# Altium footprint library O_JonF_DaveL.PcbLib: 331 footprints (part 17 of 21)
Each footprint in its own frame and in the unit in brackets; x right, y up, seen from the top. Pads: shape width x height; smd on the part's side, far side on the other; paste and mask are expansions set on the pad; w line width, h text height; cw(c..) or ccw(c..) is an arc to the next point about the centre after c.
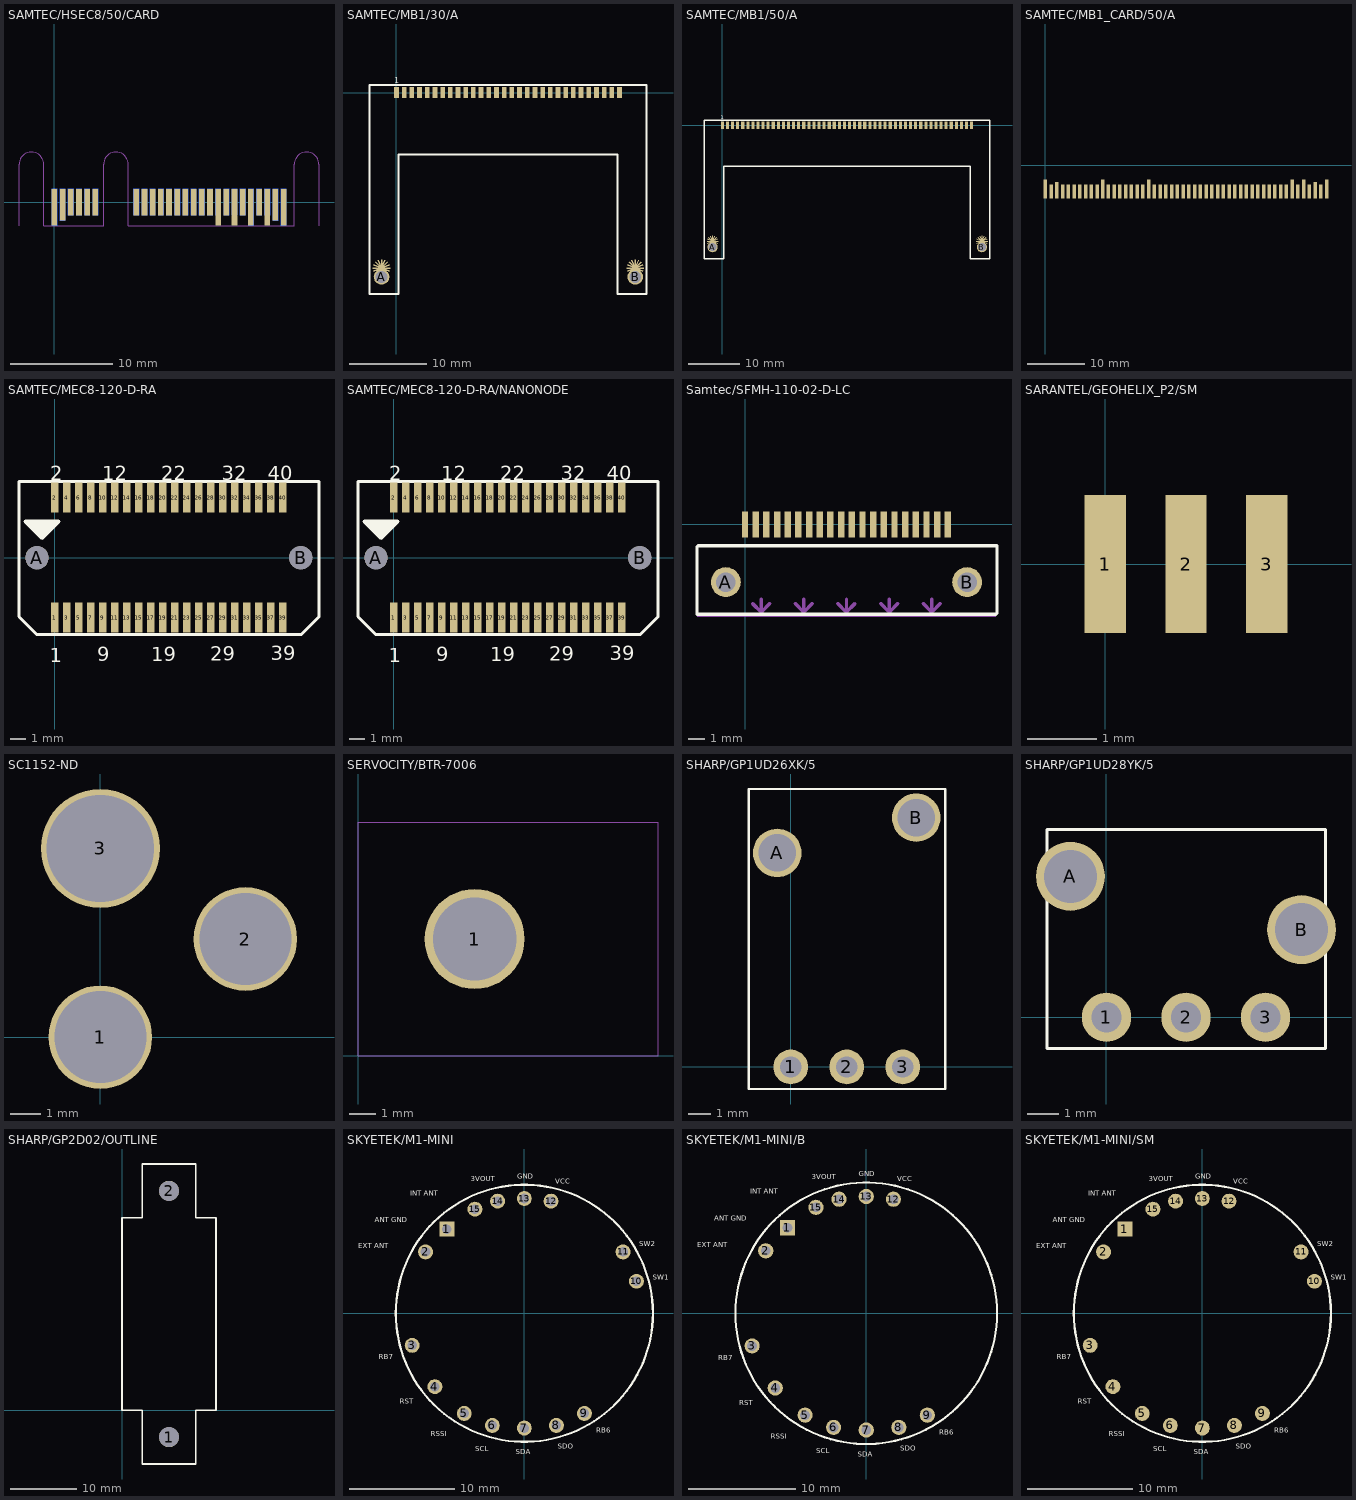
[diagram p16: the footprints below, top view; thin cyan lines are the x and y axes]

## SAMTEC/HSEC8/50/CARD [mil]
height 1
pads (50):
  rect 21.63x141.72 smd mask+7.87: 1(0,-19.69) 33(629.92,-19.69) 37(692.9,-19.69) 41(755.9,-19.69) 45(818.88,-19.69) 49(881.88,-19.69)
  rect 21.63x141.72 smd far side mask+7.87: 2(0,-19.69) 42(755.9,-19.69) 50(881.88,-19.69)
  rect 21.63x122.02 smd mask+7.87: 3(31.48,-9.84) 47(850.38,-9.84)
  rect 21.63x122.02 smd far side mask+7.87: 4(31.48,-9.84) 48(850.38,-9.84)
  rect 21.63x102.33 smd mask+7.9: 5(63,0) 7(94.48,0) 9(126,0) 11(157.47,0) 13(314.95,0) 15(346.45,0) 17(377.95,0) 19(409.43,0) 21(440.93,0) 23(472.43,0) 25(503.93,0) 27(535.42,0) 29(566.92,0) 31(598.42,0) 35(661.42,0) 39(724.4,0) 43(787.4,0)
  rect 21.63x102.33 smd far side mask+7.9: 6(63,0) 8(94.48,0) 10(126,0) 12(157.47,0) 14(314.95,0) 16(346.45,0) 18(377.95,0) 20(409.43,0) 22(440.93,0) 24(472.43,0) 26(503.93,0) 28(535.42,0) 30(566.92,0) 32(598.42,0) 34(629.92,0) 36(661.42,0) 38(692.9,0) 40(724.4,0) 44(787.4,0) 46(818.88,0)
Top Solder:
  region: 284,145 284,-91 923,-91 923,145
  region: -41,-91 -41,145 189,145 189,-91
Bottom Solder:
  region: 284,145 284,-91 923,-91 923,145
  region: -41,145 189,145 189,-91 -41,-91
Mechanical 16:
  lines w1: -136.35,-91.33 -136.35,145 ; -136.28,145 cw(c-88.78,145) -41.28,145 ; -41.35,145 -41.35,-91.33 188.97,-91.34 188.97,145 ; 189.02,145 cw(c236.52,145) 284.02,145 284,-90.93 ; 284,-91.34 923,-91.34 ; 922.97,145 cw(c970.47,145) 1017.97,145 ; 923,-91 923,145 ; 1018,-91.33 1018,145

## SAMTEC/MB1/30/A [mm]
pads (50):
  rect 0.61x1.45 smd: 1(0,0) 2(1,0) 3(2,0) 4(3,0) 5(4,0) 6(5,0) 7(6,0) 8(7,0) 9(8,0) 10(9,0) 11(10,0) 12(11,0) 13(12,0) 14(13,0) 15(14,0) 16(15,0) 17(16,0) 18(17,0) 19(18,0) 20(19,0) 21(20,0) 22(21,0) 23(22,0) 24(23,0) 25(24,0) 26(25,0) 27(26,0) 28(27,0) 29(28,0) 30(29,0)
  round 2.032 hole 1.55: A(-1.94,-23.952) B(31.04,-23.952)
  rect 0.2x2.286 smd: A.1(-1.94,-22.81) A.2(-1.94,-22.81) B.1(31.04,-22.81) B.5(31.04,-22.81)
  rect 0.2x2.286 smd rot 22.5: A.3(-1.94,-22.81) B.6(31.04,-22.81)
  rect 0.2x2.286 smd rot 45: A.4(-1.94,-22.81) B.2(31.04,-22.81)
  rect 0.2x2.286 smd rot 67.5: A.5(-1.94,-22.81) B.7(31.04,-22.81)
  rect 2.286x0.2 smd: A.6(-1.94,-22.81) B.3(31.04,-22.81)
  rect 0.2x2.286 smd rot 112.5: A.7(-1.94,-22.81) B.8(31.04,-22.81)
  rect 0.2x2.286 smd rot 135: A.8(-1.94,-22.81) B.4(31.04,-22.81)
  rect 0.2x2.286 smd rot 157.5: A.9(-1.94,-22.81) B.9(31.04,-22.81)
Top Overlay:
  lines w0.25: -3.53,-26.202 0.28,-26.202 0.28,-8.042 28.725,-8.042 28.725,-26.202 32.525,-26.202 32.525,1 -3.53,1 -3.53,-26.202
  text ".Designator" at -3.989,-6.3 h1.5
  text "1" at -0.3,1.2 h0.75
Top Paste:
  drawing of 12 lines, arcs and shapes, not listed
Mechanical 1:
  text ".Pattern" at -3,-11 h1.5
  text ".Comment" at 0,6 h1.5
  text ".Designator" at 0,9 h1.5
  text "Solder Loc (tm) requires a VERY specific solder" at -3,-13 h1.12
  text "paste stencil. USE THIS SPT LAYER!" at -3,-15 h1.12

## SAMTEC/MB1/50/A [mm]
pads (70):
  rect 0.61x1.45 smd: 1(0,0) 2(1,0) 3(2,0) 4(3,0) 5(4,0) 6(5,0) 7(6,0) 8(7,0) 9(8,0) 10(9,0) 11(10,0) 12(11,0) 13(12,0) 14(13,0) 15(14,0) 16(15,0) 17(16,0) 18(17,0) 19(18,0) 20(19,0) 21(20,0) 22(21,0) 23(22,0) 24(23,0) 25(24,0) 26(25,0) 27(26,0) 28(27,0) 29(28,0) 30(29,0) 31(30,0) 32(31,0) 33(32,0) 34(33,0) 35(34,0) 36(35,0) 37(36,0) 38(37,0) 39(38,0) 40(39,0) 41(40,0) 42(41,0) 43(42,0) 44(43,0) 45(44,0) 46(45,0) 47(46,0) 48(47,0) 49(48,0) 50(49,0)
  round 2.032 hole 1.55: A(-1.94,-23.952) B(51.04,-23.952)
  rect 0.2x2.286 smd: A.1(-1.94,-22.81) A.2(-1.94,-22.81) B.1(51.04,-22.81) B.5(51.04,-22.81)
  rect 0.2x2.286 smd rot 22.5: A.3(-1.94,-22.81) B.6(51.04,-22.81)
  rect 0.2x2.286 smd rot 45: A.4(-1.94,-22.81) B.2(51.04,-22.81)
  rect 0.2x2.286 smd rot 67.5: A.5(-1.94,-22.81) B.7(51.04,-22.81)
  rect 2.286x0.2 smd: A.6(-1.94,-22.81) B.3(51.04,-22.81)
  rect 0.2x2.286 smd rot 112.5: A.7(-1.94,-22.81) B.8(51.04,-22.81)
  rect 0.2x2.286 smd rot 135: A.8(-1.94,-22.81) B.4(51.04,-22.81)
  rect 0.2x2.286 smd rot 157.5: A.9(-1.94,-22.81) B.9(51.04,-22.81)
Top Overlay:
  lines w0.25: -3.53,-26.202 0.28,-26.202 0.28,-8.042 48.72,-8.042 48.72,-26.202 52.53,-26.202 52.53,1 -3.53,1 -3.53,-26.202
  text "1" at -0.3,1.2 h0.75
  text ".Designator" at -3.989,-6.3 h1.5
Top Paste:
  drawing of 12 lines, arcs and shapes, not listed
Mechanical 1:
  text "paste stencil. USE THIS SPT LAYER!" at -3,-15 h1.12
  text "Solder Loc (tm) requires a VERY specific solder" at -3,-13 h1.12
  text ".Designator" at 0,9 h1.5
  text ".Comment" at 0,6 h1.5
  text ".Pattern" at -3,-11 h1.5

## SAMTEC/MB1_CARD/50/A [mm]
pads (50):
  rect 0.61x3.25 smd: 1(49,-4.1) 5(45,-4.1) 7(43,-4.1) 32(18,-4.1) 40(10,-4.1) 50(0,-4.1)
  rect 0.61x2.45 smd: 2(48,-4.5) 4(46,-4.5) 6(44,-4.5) 8(42,-4.5) 9(41,-4.5) 10(40,-4.5) 11(39,-4.5) 12(38,-4.5) 13(37,-4.5) 14(36,-4.5) 15(35,-4.5) 16(34,-4.5) 17(33,-4.5) 18(32,-4.5) 19(31,-4.5) 20(30,-4.5) 21(29,-4.5) 22(28,-4.5) 23(27,-4.5) 24(26,-4.5) 25(25,-4.5) 26(24,-4.5) 27(23,-4.5) 28(22,-4.5) 29(21,-4.5) 30(20,-4.5) 31(19,-4.5) 33(17,-4.5) 34(16,-4.5) 35(15,-4.5) 36(14,-4.5) 37(13,-4.5) 38(12,-4.5) 39(11,-4.5) 41(9,-4.5) 42(8,-4.5) 43(7,-4.5) 44(6,-4.5) 45(5,-4.5) 46(4,-4.5) 47(3,-4.5) 49(1,-4.5)
  rect 0.61x2.85 smd: 3(47,-4.3) 48(2,-4.3)
Top Solder:
  region: 49.5,-2.47 49.501,-2.47 49.501,-5.73 49.5,-5.73 49.5,-5.731 -0.5,-5.731 -0.5,-5.73 -0.501,-5.73 -0.501,-2.47 -0.5,-2.47 -0.5,-2.469 49.5,-2.469
Mechanical 1:
  text "FLUSH THIS EDGE TO EDGE OF CARD" at 8.98,-0.96 h0.95
  text "TOP OF CARD PCB *FACES* TOP OF HOST PCB" at 3.98,1.04 h0.95
  text "1" at 48.641,-2.34 h0.95
  text ".Pattern" at 3.98,3.04 h0.95

## SAMTEC/MEC8-120-D-RA [mm]
pads (42):
  rect 0.5x2 smd: 1(0,-4) 2(0,4) 3(0.8,-4) 4(0.8,4) 5(1.6,-4) 6(1.6,4) 7(2.4,-4) 8(2.4,4) 9(3.2,-4) 10(3.2,4) 11(4,-4) 12(4,4) 13(4.8,-4) 14(4.8,4) 15(5.6,-4) 16(5.6,4) 17(6.4,-4) 18(6.4,4) 19(7.2,-4) 20(7.2,4) 21(8,-4) 22(8,4) 23(8.8,-4) 24(8.8,4) 25(9.6,-4) 26(9.6,4) 27(10.4,-4) 28(10.4,4) 29(11.2,-4) 30(11.2,4) 31(12,-4) 32(12,4) 33(12.8,-4) 34(12.8,4) 35(13.6,-4) 36(13.6,4) 37(14.4,-4) 38(14.4,4) 39(15.2,-4) 40(15.2,4)
  round 1.55 hole 1.55: A(-1.2,0) B(16.4,0)
Top Overlay:
  region: -1.97,2.518 0.25,2.518 0.327,2.487 0.358,2.41 0.327,2.333 -0.783,1.223 -0.806,1.214 -0.86,1.192 -0.937,1.223 -2.047,2.333 -2.056,2.356 -2.078,2.41 -2.047,2.487
  lines w0.2: -2.4,-3.943 -2.4,5.094 17.62,5.07 17.62,-3.953 16.453,-5.119 -1.218,-5.125 -2.4,-3.943
  text "32" at 11.119,5.153 h0.95
  text ".Designator" at 1.152,0.918 h0.95
  text "1" at -0.341,-6.974 h0.95
  text "2" at -0.331,5.173 h0.95
  text "40" at 14.214,5.173 h0.95
  text "39" at 14.396,-6.852 h0.95
  text "9" at 2.809,-6.914 h0.95
  text "19" at 6.439,-6.904 h0.95
  text "29" at 10.349,-6.884 h0.95
  text "12" at 3.139,5.173 h0.95
  text "22" at 7.099,5.153 h0.95
Mechanical 1:
  text ".Pattern" at 18.082,-0.422 h0.95
  text ".Comment" at 18.082,2.46 h0.95
  text ".Designator" at 18.194,3.778 h0.95
  text "CARD INSERTS FROM THIS SIDE" at -11.15,6.79 h1.43

## SAMTEC/MEC8-120-D-RA/NANONODE [mm]
pads (42):
  rect 0.5x2 smd: 1(0,-4) 2(0,4) 3(0.8,-4) 4(0.8,4) 5(1.6,-4) 6(1.6,4) 7(2.4,-4) 8(2.4,4) 9(3.2,-4) 10(3.2,4) 11(4,-4) 12(4,4) 13(4.8,-4) 14(4.8,4) 15(5.6,-4) 16(5.6,4) 17(6.4,-4) 18(6.4,4) 19(7.2,-4) 20(7.2,4) 21(8,-4) 22(8,4) 23(8.8,-4) 24(8.8,4) 25(9.6,-4) 26(9.6,4) 27(10.4,-4) 28(10.4,4) 29(11.2,-4) 30(11.2,4) 31(12,-4) 32(12,4) 33(12.8,-4) 34(12.8,4) 35(13.6,-4) 36(13.6,4) 37(14.4,-4) 38(14.4,4) 39(15.2,-4) 40(15.2,4)
  round 1.55 hole 1.55: A(-1.2,0) B(16.4,0)
Top Overlay:
  region: -1.97,2.518 0.25,2.518 0.327,2.487 0.358,2.41 0.327,2.333 -0.783,1.223 -0.806,1.214 -0.86,1.192 -0.937,1.223 -2.047,2.333 -2.056,2.356 -2.078,2.41 -2.047,2.487
  lines w0.2: -2.4,-3.943 -2.4,5.094 17.62,5.07 17.62,-3.953 16.453,-5.119 -1.218,-5.125 -2.4,-3.943
  text ".Designator" at 1.152,0.918 h0.95
  text "1" at -0.341,-6.974 h0.95
  text "2" at -0.331,5.173 h0.95
  text "40" at 14.214,5.173 h0.95
  text "39" at 14.396,-6.852 h0.95
  text "9" at 2.809,-6.914 h0.95
  text "19" at 6.439,-6.904 h0.95
  text "29" at 10.349,-6.884 h0.95
  text "12" at 3.139,5.173 h0.95
  text "22" at 7.099,5.153 h0.95
  text "32" at 11.119,5.153 h0.95
Mechanical 1:
  text ".Pattern" at 18.082,-0.422 h0.95
  text ".Comment" at 18.082,2.46 h0.95
  text ".Designator" at 18.194,3.778 h0.95
  text "CARD INSERTS FROM THIS SIDE" at -11.15,6.79 h1.43

## Samtec/SFMH-110-02-D-LC [mil]
height 135
pads (22):
  rect 15x60 smd: 1(450,0) 2(475,0) 3(400,0) 4(425,0) 5(350,0) 6(375,0) 7(300,0) 8(325,0) 9(250,0) 10(275,0) 11(200,0) 12(225,0) 13(150,0) 14(175,0) 15(100,0) 16(125,0) 17(50,0) 18(75,0) 19(0,0) 20(25,0)
  round 70 hole 46: A(-45,-135) B(520,-135)
Top Overlay:
  lines w8: -112.5,-52.5 -112.5,-210 587.5,-210 ; -110,-50 590,-50 590,-207.5
Mechanical 1:
  lines w1: -112.5,-215 587.5,-215
  lines w8: 17.5,-185 37.5,-205 ; 37.5,-175 37.5,-205 ; 57.5,-185 37.5,-205 ; 117.5,-185 137.5,-205 ; 137.5,-175 137.5,-205 ; 157.5,-185 137.5,-205 ; 217.5,-185 237.5,-205 ; 237.5,-175 237.5,-205 ; 257.5,-185 237.5,-205 ; 317.5,-185 337.5,-205 ; 337.5,-175 337.5,-205 ; 357.5,-185 337.5,-205 ; 417.5,-185 437.5,-205 ; 437.5,-175 437.5,-205 ; 457.5,-185 437.5,-205
  text "This Line at Edge of Board" at -142.5,-155 h30

## SARANTEL/GEOHELIX_P2/SM [mm]
pads (3):
  rect 0.6x2 smd: 1(0,0) 2(1.17,0) 3(2.34,0)
Top Overlay:
  text ".Designator" at 1.4,-2.55 h0.95
Mechanical 1:
  text ".Pattern" at -9,10.5 h0.95
  text ".Comment" at -0.45,7.6 h0.95
  text ".Designator" at 1.4,-2.55 h0.95
  text "This Section" at -5.05,17.4 h0.95
  text "Hangs Off" at -3.35,15.5 h0.95
  text "the PCB" at -2.35,13.45 h0.95

## SC1152-ND [mil]
pads (3):
  round 135 / inner round 145 / far side round 135 hole 120: 1(0,0) 2(189,128)
  round 155 hole 140: 3(0,246)
Top Overlay:
  text ".Designator" at -69,-191.5 h56.25
Mechanical 1:
  text ".Pattern" at -164,337 h56.25
  text ".Designator" at -68,-191.5 h56.25

## SERVOCITY/BTR-7006 [mil]
pads (1):
  round 150 hole 125: 1(175,175)
Mechanical 1:
  lines w1: 0,0 450,0 450,350 0,350 0,0
  text ".Pattern" at -275,-100 h56.25
  text ".Comment" at 0,225 h56.25
  text "FRONT" at 472.23,299.43 h37.5

## SHARP/GP1UD26XK/5 [mm]
pads (5):
  round 1.575 hole 0.965: 1(0,0) 2(2.54,0) 3(5.08,0)
  round 2.2 hole 1.7: A(-0.61,9.7) B(5.69,11.3)
Top Overlay:
  lines w0.1: -1.9,-1 -1.9,12.6 7,12.6 7,-1 -1.9,-1
  text ".Designator" at 9,3 h1.5
Mechanical 1:
  text ".Designator" at 0,7 h1.5
  text ".Comment" at 0,5 h1.5
  text ".Pattern" at -2,-4.556 h1.5

## SHARP/GP1UD28YK/5 [mm]
pads (5):
  round 1.575 hole 0.965: 1(0,0) 2(2.54,0) 3(5.08,0)
  round 2.2 hole 1.7: A(-1.15,4.5) B(6.23,2.8)
Top Overlay:
  lines w0.1: -1.9,-1 7,-1 7,6 -1.9,6 -1.9,-1
  text ".Designator" at -1,6 h1.5
Mechanical 1:
  text ".Pattern" at -2,-4.556 h1.5
  text ".Comment" at 0,5 h1.5
  text ".Designator" at 0,7 h1.5

## SHARP/GP2D02/OUTLINE [mil]
pads (2):
  round 120 hole 120: 1(280,-160) 2(280,1310)
Top Overlay:
  lines w10: 0,0 0,1150 120,1150 120,1470 440,1470 440,1150 560,1150 560,0 440,0 440,-320 120,-320 120,0 0,0
  text ".Designator" at 25,1037.5 h56.25
Mechanical 1:
  text ".Pattern" at 433.33,1130 h56.25
  text ".Comment" at 25,950 h56.25
  text ".Designator" at 0,337.5 h56.25

## SKYETEK/M1-MINI [mil]
pads (15):
  rect 56x56 hole 36: 1(-290,315)
  round 56 hole 36: 2(-370,230) 3(-420,-120) 4(-335,-275) 5(-225,-375) 6(-120,-420) 7(0,-430) 8(120,-420) 9(225,-375) 10(420,120) 11(370,230) 12(100,420) 13(0,430) 14(-100,420) 15(-185,390)
Top Overlay:
  circle w8: c0,0 r481.48
  text "INT ANT" at -427,441 h18.75
  text "ANT GND" at -560,341 h18.75
  text "EXT ANT" at -623,243 h18.75
  text "RB7" at -545,-172 h18.75
  text "RST" at -467,-339 h18.75
  text "RSSI" at -351,-461 h18.75
  text "SCL" at -184,-516 h18.75
  text "SDA" at -32,-528 h18.75
  text "SDO" at 125,-507 h18.75
  text "RB6" at 269,-447 h18.75
  text "SW1" at 482,126 h18.75
  text "SW2" at 431,252 h18.75
  text "VCC" at 115,486 h18.75
  text "GND" at -27,504 h18.75
  text "3VOUT" at -200,494 h18.75
  text ".Designator" at -132,-42.5 h56.25
Mechanical 1:
  text ".Pattern" at -400,550 h56.25
  text ".Comment" at -400,625 h56.25
  text ".Designator" at -134,-42.5 h56.25

## SKYETEK/M1-MINI/B [mil]
pads (13):
  rect 56x56 hole 36: 1(-290,315)
  round 56 hole 36: 2(-370,230) 3(-420,-120) 4(-335,-275) 5(-225,-375) 6(-120,-420) 7(0,-430) 8(120,-420) 9(225,-375) 12(100,420) 13(0,430) 14(-100,420) 15(-185,390)
Top Overlay:
  circle w8: c0,0 r481.48
  text "INT ANT" at -427,441 h18.75
  text "ANT GND" at -560,341 h18.75
  text "EXT ANT" at -623,243 h18.75
  text "RB7" at -545,-172 h18.75
  text "RST" at -467,-339 h18.75
  text "RSSI" at -351,-461 h18.75
  text "SCL" at -184,-516 h18.75
  text "SDA" at -32,-528 h18.75
  text "SDO" at 125,-507 h18.75
  text "RB6" at 269,-447 h18.75
  text ".Designator" at -132,-42.5 h56.25
  text "VCC" at 115,486 h18.75
  text "GND" at -27,504 h18.75
  text "3VOUT" at -200,494 h18.75
Mechanical 1:
  text ".Designator" at -134,-42.5 h56.25
  text ".Pattern" at -400,550 h56.25
  text ".Comment" at -400,625 h56.25

## SKYETEK/M1-MINI/SM [mil]
pads (15):
  rect 56x56 smd: 1(-290,315)
  round 56 smd: 2(-370,230) 3(-420,-120) 4(-335,-275) 5(-225,-375) 6(-120,-420) 7(0,-430) 8(120,-420) 9(225,-375) 10(420,120) 11(370,230) 12(100,420) 13(0,430) 14(-100,420) 15(-185,390)
Top Overlay:
  circle w8: c0,0 r481.48
  text ".Designator" at -132,-42.5 h56.25
  text "INT ANT" at -427,441 h18.75
  text "ANT GND" at -560,341 h18.75
  text "EXT ANT" at -623,243 h18.75
  text "RB7" at -545,-172 h18.75
  text "RST" at -467,-339 h18.75
  text "RSSI" at -351,-461 h18.75
  text "SCL" at -184,-516 h18.75
  text "SDA" at -32,-528 h18.75
  text "SDO" at 125,-507 h18.75
  text "RB6" at 269,-447 h18.75
  text "SW1" at 482,126 h18.75
  text "SW2" at 431,252 h18.75
  text "VCC" at 115,486 h18.75
  text "GND" at -27,504 h18.75
  text "3VOUT" at -200,494 h18.75
Mechanical 1:
  text ".Pattern" at -400,550 h56.25
  text ".Comment" at -400,625 h56.25
  text ".Designator" at -134,-42.5 h56.25